# EAGLE library part SN75178BP (library dviid)
The SN75178B is a differential bus repeaters RS485/RS422.
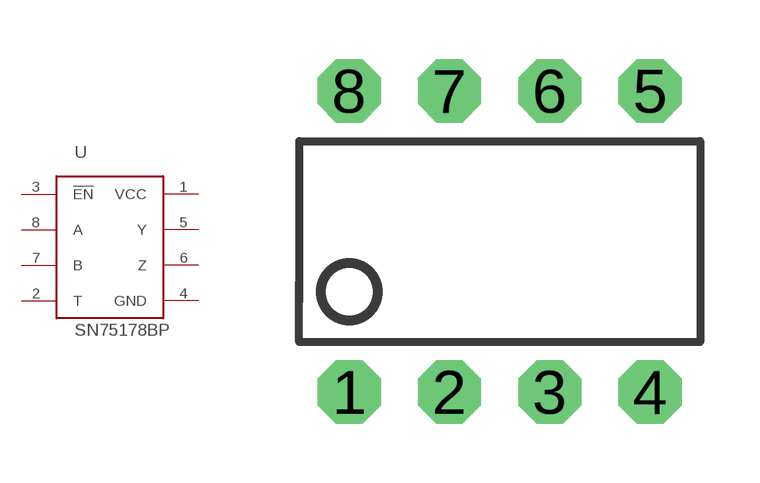
[diagram p8: symbol with the pads of DIP08; footprint DIP08]

Designator prefix -

## SN75178BP  [DIP08]
1  VCC  pwr
2  T
3  !EN  in
4  GND  pwr
5  Y
6  Z
7  B
8  A

## Footprint DIP08 (pad centres in mm)
drill 0.813 pad 1.6 octagon: 1 -3.81,-3.81; 2 -1.27,-3.81; 3 1.27,-3.81; 4 3.81,-3.81; 5 3.81,3.81; 6 1.27,3.81; 7 -1.27,3.81; 8 -3.81,3.81